# Altium integrated library DF40C-100DP-0.4V_51_.IntLib: 1 symbol
Pins are listed as number, name and electrical type; pins without a type are passive.

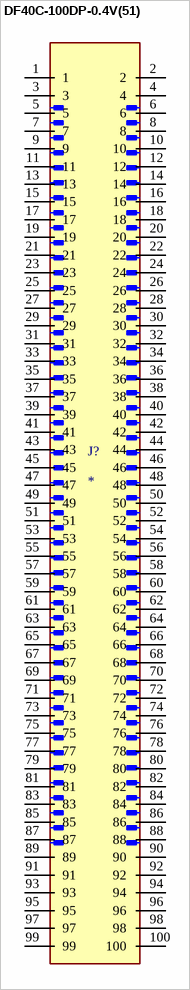
[diagram p0: symbol DF40C-100DP-0.4V(51)]

## DF40C-100DP-0.4V(51)
designator J?
100 Position Connector Plug, Outer Shroud Contacts Surface Mount Gold; MF: Hirose Electric; MP: DF40C-100DP-0.4V(51); SnapEDA_Link: https://www.snapeda.com/parts/DF40C-100DP-0.4V(51)/Hirose/view-part/?ref=snap; Package: None; Value: *; Check_prices: https://www.snapeda.com/parts/DF40C-100DP-0.4V(51)/Hirose/view-part/?ref=eda
footprint HIROSE_DF40C-100DP-0.4V(51)
pins: 1, 2, 3, 4, 5, 6, 7, 8, 9, 10, 11, 12, 13, 14, 15, 16, 17, 18, 19, 20, 21, 22, 23, 24, 25, 26, 27, 28, 29, 30, 31, 32, 33, 34, 35, 36, 37, 38, 39, 40, 41, 42, 43, 44, 45, 46, 47, 48, 49, 50, 51, 52, 53, 54, 55, 56, 57, 58, 59, 60, 61, 62, 63, 64, 65, 66, 67, 68, 69, 70, 71, 72, 73, 74, 75, 76, 77, 78, 79, 80, 81, 82, 83, 84, 85, 86, 87, 88, 89, 90, 91, 92, 93, 94, 95, 96, 97, 98, 99, 100